# EAGLE library part PIC16F1778 (library lib-works)
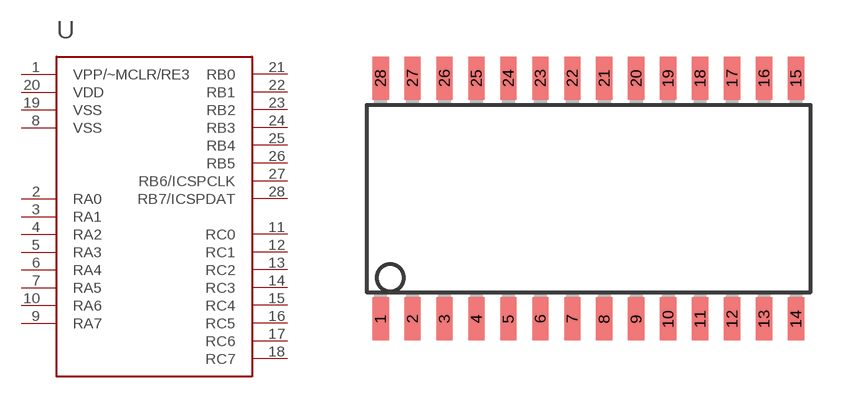
[diagram p0: symbol with the pads of SO28W; footprint SO28W]

Designator prefix -

## PIC16F1778  [SO28W]
1  VPP/~MCLR/RE3
2  RA0
3  RA1
4  RA2
5  RA3
6  RA4
7  RA5
8  VSS
9  RA7
10  RA6
11  RC0
12  RC1
13  RC2
14  RC3
15  RC4
16  RC5
17  RC6
18  RC7
19  VSS
20  VDD
21  RB0
22  RB1
23  RB2
24  RB3
25  RB4
26  RB5
27  RB6/ICSPCLK
28  RB7/ICSPDAT

## Footprint SO28W (pad centres in mm)
28-Lead Plastic Small Outline (SO) Wide, 300 mil Body (SOIC) Source: http://ww1.microchip.com/downloads/en/devicedoc/39632c.pdf
smd 0.65 x 1.7: 1 -7.62,-4.78; 2 -6.35,-4.78; 3 -5.08,-4.78; 4 -3.81,-4.78; 5 -2.54,-4.78; 6 -1.27,-4.78; 7 0,-4.78; 8 1.27,-4.78; 9 2.54,-4.78; 10 3.81,-4.78; 11 5.08,-4.78; 12 6.35,-4.78; 13 7.62,-4.78; 14 8.89,-4.78; 15 8.89,4.78; 16 7.62,4.78; 17 6.35,4.78; 18 5.08,4.78; 19 3.81,4.78; 20 2.54,4.78; 21 1.27,4.78; 22 0,4.78; 23 -1.27,4.78; 24 -2.54,4.78; 25 -3.81,4.78; 26 -5.08,4.78; 27 -6.35,4.78; 28 -7.62,4.78